# Altium schematic symbol library HC49S-3.SchLib: 1 symbol
Pins are listed as number, name and electrical type; pins without a type are passive.

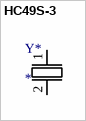
[diagram p0: symbol HC49S-3]

## HC49S-3
designator Y*
pins: 1, 2